# Altium footprint library CRHT-D000029.PcbLib: 5 footprints
Each footprint in its own frame and in the unit in brackets; x right, y up, seen from the top. Pads: shape width x height; smd on the part's side, far side on the other; paste and mask are expansions set on the pad; w line width, h text height; cw(c..) or ccw(c..) is an arc to the next point about the centre after c.
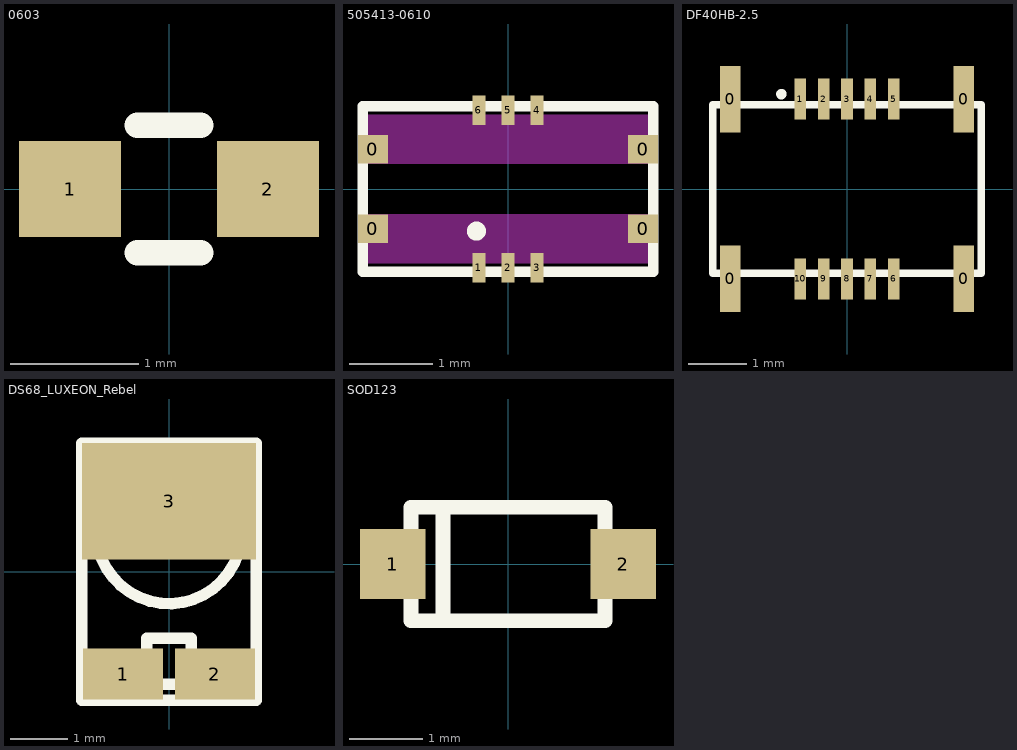
[diagram p0: the footprints below, top view; thin cyan lines are the x and y axes]

## 0603 [mm]
pads (2):
  rect 0.8x0.75 smd: 1(-0.775,0) 2(0.775,0)
Top Overlay:
  lines w0.2: -0.25,-0.5 0.25,-0.5 ; -0.25,0.5 0.25,0.5

## 505413-0610 [mm]
height 0.78
pads (10):
  rect 0.36x0.34 smd: 0(-1.63,-0.48) 0(-1.63,0.48) 0(1.63,-0.48) 0(1.63,0.48)
  rect 0.16x0.36 smd: 1(-0.35,-0.95) 2(0,-0.95) 3(0.35,-0.95) 4(0.35,0.95) 5(0,0.95) 6(-0.35,0.95)
Top Layer keep-out:
  rectangle: -1.75,-0.9 1.75,-0.3
  rectangle: -1.75,0.3 1.75,0.9
Top Overlay:
  circle w0.127: c-0.381,-0.508 r0.051
  lines w0.127: -1.75,-1 -1.75,1 1.75,1 1.75,-1 -1.75,-1

## DF40HB-2.5 [mm]
height 2.4
pads (14):
  rect 0.35x1.14 smd: 0(-2,-1.54) 0(-2,1.54) 0(2,-1.54) 0(2,1.54)
  rect 0.2x0.7 smd: 1(-0.8,1.54) 2(-0.4,1.54) 3(0,1.54) 4(0.4,1.54) 5(0.8,1.54) 6(0.8,-1.54) 7(0.4,-1.54) 8(0,-1.54) 9(-0.4,-1.54) 10(-0.8,-1.54)
Top Overlay:
  circle w0.127: c-1.125,1.625 r0.025
  lines w0.127: -2.3,-1.44 -2.3,1.44 2.3,1.44 2.3,-1.44 -2.3,-1.44

## DS68_LUXEON_Rebel [mil]
pads (3):
  rect 55x35 smd: 1(-31.5,-70.28) 2(31.5,-70.28)
  rect 120x80 smd: 3(0,48.62)
Top Overlay:
  circle w7.87: c0,28.35 r50.2
  lines w7.87: -60.04,-88.39 60.04,-88.39 60.04,88.39 -60.04,88.39 -60.04,-88.39 ; -15.35,-77.17 15.35,-77.17 15.35,-45.67 -15.35,-45.67 -15.35,-77.17

## SOD123 [mm]
pads (2):
  rect 0.9x0.95 smd: 1(-1.575,0) 2(1.575,0)
Top Overlay:
  lines w0.2: -0.889,-0.762 -0.889,0.775 ; -1.325,-0.775 -1.325,0.775 1.325,0.775 1.325,-0.775 -1.325,-0.775